# Altium schematic symbol library U_CC26xxF128RGZT.SchLib: 1 symbol
Pins are listed as number, name and electrical type; pins without a type are passive.

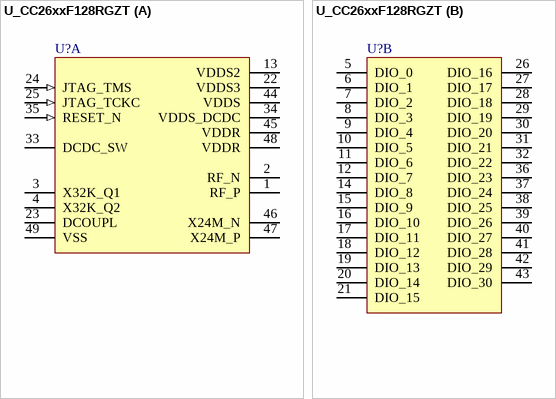
[diagram p0: symbol U_CC26xxF128RGZT]

## U_CC26xxF128RGZT
designator U?
part A pins: 1 RF_P (power), 2 RF_N (power), 3 X32K_Q1 (power), 4 X32K_Q2 (power), 13 VDDS2 (power), 22 VDDS3 (power), 23 DCOUPL, 24 JTAG_TMS (in), 25 JTAG_TCKC (in), 33 DCDC_SW, 34 VDDS_DCDC (power), 35 RESET_N (in), 44 VDDS (power), 45 VDDR (power), 46 X24M_N (power), 47 X24M_P (power), 48 VDDR (power), 49 VSS
part B pins: 5 DIO_0, 6 DIO_1, 7 DIO_2, 8 DIO_3, 9 DIO_4, 10 DIO_5, 11 DIO_6, 12 DIO_7, 14 DIO_8, 15 DIO_9, 16 DIO_10, 17 DIO_11, 18 DIO_12, 19 DIO_13, 20 DIO_14, 21 DIO_15, 26 DIO_16, 27 DIO_17, 28 DIO_18, 29 DIO_19, 30 DIO_20, 31 DIO_21, 32 DIO_22, 36 DIO_23, 37 DIO_24, 38 DIO_25, 39 DIO_26, 40 DIO_27, 41 DIO_28, 42 DIO_29, 43 DIO_30